# Altium footprint library TI Logic Decoder Demux.PcbLib: 34 footprints (part 3 of 3)
Each footprint in its own frame and in the unit in brackets; x right, y up, seen from the top. Pads: shape width x height; smd on the part's side, far side on the other; paste and mask are expansions set on the pad; w line width, h text height; cw(c..) or ccw(c..) is an arc to the next point about the centre after c.
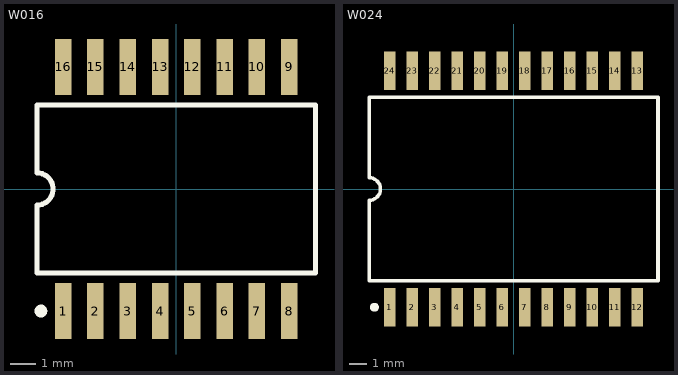
[diagram p2: the footprints below, top view; thin cyan lines are the x and y axes]

## W016 [mm] "DFP; 16 Leads; Body 10.9 x 7.2 mm (LxW max); Pitch 1.27 mm"
height 2.03
pads (16):
  rect 0.65x2.2 smd: 1(-4.445,-4.8) 2(-3.175,-4.8) 3(-1.905,-4.8) 4(-0.635,-4.8) 5(0.635,-4.8) 6(1.905,-4.8) 7(3.175,-4.8) 8(4.445,-4.8) 9(4.445,4.8) 10(3.175,4.8) 11(1.905,4.8) 12(0.635,4.8) 13(-0.635,4.8) 14(-1.905,4.8) 15(-3.175,4.8) 16(-4.445,4.8)
Top Overlay:
  circle w0.25: c-5.32,-4.8 r0.125
  lines w0.2: -5.475,-3.3 5.475,-3.3 5.475,3.3 -5.475,3.3 -5.475,0.635 cw(c-5.475,0) -5.475,-0.635 -5.475,-3.3

## W024 [mm] "DFP; 24 Leads; Body 16.3 x 9.5 mm (LxW max); Pitch 1.27 mm"
height 2.29
pads (24):
  rect 0.65x2.2 smd: 1(-6.985,-6.675) 2(-5.715,-6.675) 3(-4.445,-6.675) 4(-3.175,-6.675) 5(-1.905,-6.675) 6(-0.635,-6.675) 7(0.635,-6.675) 8(1.905,-6.675) 9(3.175,-6.675) 10(4.445,-6.675) 11(5.715,-6.675) 12(6.985,-6.675) 13(6.985,6.675) 14(5.715,6.675) 15(4.445,6.675) 16(3.175,6.675) 17(1.905,6.675) 18(0.635,6.675) 19(-0.635,6.675) 20(-1.905,6.675) 21(-3.175,6.675) 22(-4.445,6.675) 23(-5.715,6.675) 24(-6.985,6.675)
Top Overlay:
  circle w0.25: c-7.86,-6.675 r0.125
  lines w0.2: -8.15,-5.175 8.15,-5.175 8.15,5.175 -8.15,5.175 -8.15,0.635 cw(c-8.15,0) -8.15,-0.635 -8.15,-5.175